# EAGLE library part ARDUINO_SHIELD (library 0_jc-custom-eagle6)
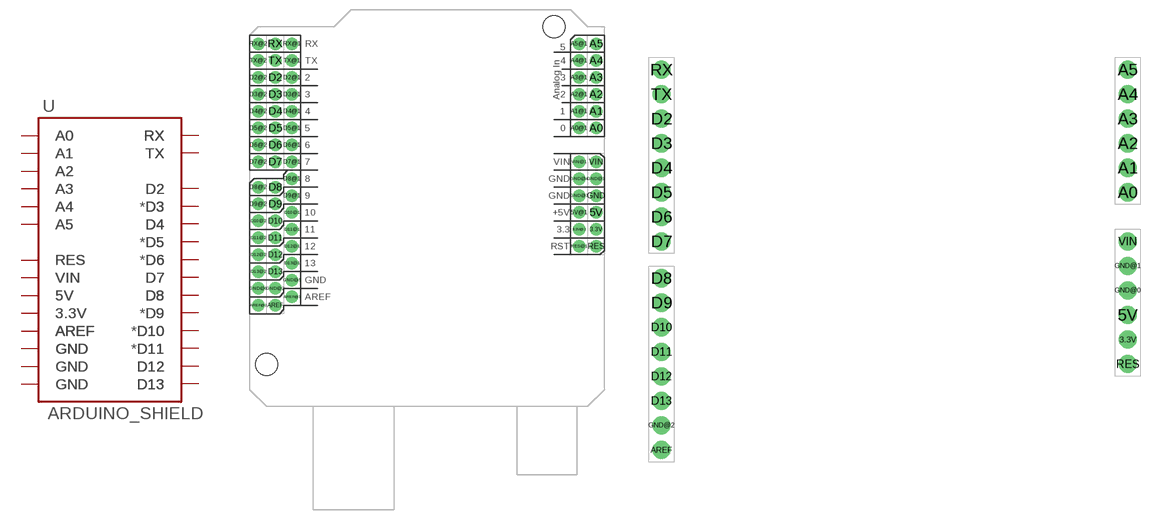
[diagram p14: symbol with the pads of DUEMILANOVE_SHIELD; footprints DUEMILANOVE_SHIELD, DUEMILANOVE_VIAS]

Designator prefix U

## ARDUINO_SHIELDLABEL  [DUEMILANOVE_SHIELD]
3.3V  3.3V
3.3V@1  3.3V
5V  5V
5V@1  5V
A0  A0
A0@1  A0
A1  A1
A1@1  A1
A2  A2
A2@1  A2
A3  A3
A3@1  A3
A4  A4
A4@1  A4
A5  A5
A5@1  A5
AREF  AREF
AREF@1  AREF
AREF@2  AREF
D2  D2
D2@1  D2
D2@2  D2
D3  *D3
D3@1  D3
D3@2  D3
D4  D4
D4@1  D4
D4@2  D4
D5  *D5
D5@1  D5
D5@2  D5
D6  *D6
D6@1  D6
D6@2  D6
D7  D7
D7@1  D7
D7@2  D7
D8  D8
D8@1  D8
D8@2  D8
D9  *D9
D9@1  D9
D9@2  D9
D10  *D10
D10@1  D10
D10@2  D10
D11  *D11
D11@1  D11
D11@2  D11
D12  D12
D12@1  D12
D12@2  D12
D13  D13
D13@1  D13
D13@2  D13
GND  GND  pwr
GND@1  GND  pwr
GND@2  GND  pwr
GND@3  GND  pwr
GND@4  GND  pwr
GND@5  GND  pwr
GND@6  GND  pwr
RES  RES
RES@1  RES
RX  RX
RX@1  RX
RX@2  RX
TX  TX
TX@1  TX
TX@2  TX
VIN  VIN
VIN@1  VIN

## ARDUINO_SHIELDNO_SILK  [DUEMILANOVE_VIAS]

## ARDUINO_SHIELDNOHOLES  [DUEMILANOVE_SHIELD_NOHOLES]

## ARDUINO_SHIELDLONGPADS  [DUEMILANOVE_SHIELD_LONGPADS]

## ARDUINO_SHIELDNOLABELS  [DUEMILANOVE_SHIELD_NOLABELS]

## Footprint DUEMILANOVE_SHIELD (pad centres in mm)
drill 1.016 pad 1.88: 3.3V 52.07,26.67; 3.3V@1 49.53,26.67; 5V 52.07,29.21; 5V@1 49.53,29.21; A0 52.07,41.91; A0@1 49.53,41.91; A1 52.07,44.45; A1@1 49.53,44.45; A2 52.07,46.99; A2@1 49.53,46.99; A3 52.07,49.53; A3@1 49.53,49.53; A4 52.07,52.07; A4@1 49.53,52.07; A5 52.07,54.61; A5@1 49.53,54.61; AREF 3.81,15.24; AREF@1 6.35,16.51; AREF@2 1.27,15.24; D2 3.81,49.53; D2@1 6.35,49.53; D2@2 1.27,49.53; D3 3.81,46.99; D3@1 6.35,46.99; D3@2 1.27,46.99; D4 3.81,44.45; D4@1 6.35,44.45; D4@2 1.27,44.45; D5 3.81,41.91; D5@1 6.35,41.91; D5@2 1.27,41.91; D6 3.81,39.37; D6@1 6.35,39.37; D6@2 1.27,39.37; D7 3.81,36.83; D7@1 6.35,36.83; D7@2 1.27,36.83; D8 3.81,33.02; D8@1 6.35,34.29; D8@2 1.27,33.02; D9 3.81,30.48; D9@1 6.35,31.75; D9@2 1.27,30.48; D10 3.81,27.94; D10@1 6.35,29.21; D10@2 1.27,27.94; D11 3.81,25.4; D11@1 6.35,26.67; D11@2 1.27,25.4; D12 3.81,22.86; D12@1 6.35,24.13; D12@2 1.27,22.86; D13 3.81,20.32; D13@1 6.35,21.59; D13@2 1.27,20.32; GND 52.07,31.75; GND@1 52.07,34.29; GND@2 3.81,17.78; GND@3 49.53,31.75; GND@4 49.53,34.29; GND@5 6.35,19.05; GND@6 1.27,17.78; RES 52.07,24.13; RES@1 49.53,24.13; RX 3.81,54.61; RX@1 6.35,54.61; RX@2 1.27,54.61; TX 3.81,52.07; TX@1 6.35,52.07; TX@2 1.27,52.07; VIN 52.07,36.83; VIN@1 49.53,36.83
hole 3.302 at 45.72,57.15
hole 3.302 at 2.54,6.35

## Footprint DUEMILANOVE_VIAS (pad centres in mm)
drill 1.016 pad 1.88: 3.3V 50.8,13.97; 5V 50.8,16.51; A0 50.8,29.21; A1 50.8,31.75; A2 50.8,34.29; A3 50.8,36.83; A4 50.8,39.37; A5 50.8,41.91; AREF 2.54,2.54; D2 2.54,36.83; D3 2.54,34.29; D4 2.54,31.75; D5 2.54,29.21; D6 2.54,26.67; D7 2.54,24.13; D8 2.54,20.32; D9 2.54,17.78; D10 2.54,15.24; D11 2.54,12.7; D12 2.54,10.16; D13 2.54,7.62; GND@0 50.8,19.05; GND@1 50.8,21.59; GND@2 2.54,5.08; RES 50.8,11.43; RX 2.54,41.91; TX 2.54,39.37; VIN 50.8,24.13

## Footprint DUEMILANOVE_SHIELD_NOHOLES (pad centres in mm)
drill 1.016 pad 1.88: 3.3V 50.8,26.67; 5V 50.8,29.21; A0 50.8,41.91; A1 50.8,44.45; A2 50.8,46.99; A3 50.8,49.53; A4 50.8,52.07; A5 50.8,54.61; AREF 2.54,15.24; D2 2.54,49.53; D3 2.54,46.99; D4 2.54,44.45; D5 2.54,41.91; D6 2.54,39.37; D7 2.54,36.83; D8 2.54,33.02; D9 2.54,30.48; D10 2.54,27.94; D11 2.54,25.4; D12 2.54,22.86; D13 2.54,20.32; GND@0 50.8,31.75; GND@1 50.8,34.29; GND@2 2.54,17.78; RES 50.8,24.13; RX 2.54,54.61; TX 2.54,52.07; VIN 50.8,36.83

## Footprint DUEMILANOVE_SHIELD_LONGPADS (pad centres in mm)
drill 1.016 pad 1.88 long: 3.3V 50.8,26.67; 5V 50.8,29.21; A0 50.8,41.91; A1 50.8,44.45; A2 50.8,46.99; A3 50.8,49.53; A4 50.8,52.07; A5 50.8,54.61; AREF 2.54,15.24; D2 2.54,49.53; D3 2.54,46.99; D4 2.54,44.45; D5 2.54,41.91; D6 2.54,39.37; D7 2.54,36.83; D8 2.54,33.02; D9 2.54,30.48; D10 2.54,27.94; D11 2.54,25.4; D12 2.54,22.86; D13 2.54,20.32; GND@0 50.8,31.75; GND@1 50.8,34.29; GND@2 2.54,17.78; RES 50.8,24.13; RX 2.54,54.61; TX 2.54,52.07; VIN 50.8,36.83
hole 3.302 at 45.72,57.15
hole 3.302 at 2.54,6.35

## Footprint DUEMILANOVE_SHIELD_NOLABELS (pad centres in mm)
drill 1.016 pad 1.88: 3.3V 50.8,26.67; 5V 50.8,29.21; A0 50.8,41.91; A1 50.8,44.45; A2 50.8,46.99; A3 50.8,49.53; A4 50.8,52.07; A5 50.8,54.61; AREF 2.54,15.24; D2 2.54,49.53; D3 2.54,46.99; D4 2.54,44.45; D5 2.54,41.91; D6 2.54,39.37; D7 2.54,36.83; D8 2.54,33.02; D9 2.54,30.48; D10 2.54,27.94; D11 2.54,25.4; D12 2.54,22.86; D13 2.54,20.32; GND@0 50.8,31.75; GND@1 50.8,34.29; GND@2 2.54,17.78; RES 50.8,24.13; RX 2.54,54.61; TX 2.54,52.07; VIN 50.8,36.83
hole 3.302 at 45.72,57.15
hole 3.302 at 2.54,6.35